# Altium schematic symbol library ESDA7P60-1U1M.SchLib: 1 symbol
Pins are listed as number, name and electrical type; pins without a type are passive.

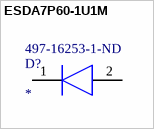
[diagram p0: symbol ESDA7P60-1U1M]

## ESDA7P60-1U1M
designator D?  Supplier Part Number 1: 497-16253-1-ND
Diode; Manufacturer_Name: STMicroelectronics; Manufacturer_Part_Number: ESDA7P60-1U1M; Description: TVS DIODE 5V 11.6V 1610; Number of Unidirectional Channels: 1; Reverse Standoff Voltage: 5V; Min Breakdown Voltage: 6.4V; Clamping Voltage: 11.6V; Peak Pulse Power: 700W; Power Line Protection: No; Polarity: Unidirectional; Max Breakdown Voltage: 7.2V; Peak Pulse Current: 60A; Datasheet Link: https://www.st.com/resource/en/datasheet/esda7p60-1u1m.pdf; Height: 0.6mm; Mouser Part Number: 511-ESDA7P60-1U1M; Mouser Price/Stock: https://www.mouser.com/Search/Refine.aspx?Keyword=511-ESDA7P60-1U1M; RS Part Number: 1106381P; RS Price/Stock: http://uk.rs-online.com/web/p/products/1106381P; Supplier 1: Digi-Key; Manufacturer: STMicroelectronics; Manufacturer Part Number: ESDA7P60-1U1M; Stock 1: 16331; Pricing 1: 1=0.45, 10=0.363, 100=0.2472, 500=0.1854, 1000=0.13905, 2500=0.12746 (USD); Mount: Surface Mount; Case/Package: 1610; Number of Pins: 2; Min Operating Temperature: -55°C; Max Operating Temperature: 150°C; Packaging: Cut Tape; Composition: Zener; REACH SVHC: No SVHC; ComponentLink1URL: http://www.st.com/content/ccc/resource/technical/document/datasheet/44/e9/26/44/42/ee/4f/e5/DM00139972.pdf/files/DM00139972.pdf/jcr:content/translations/en.DM00139972.pdf?src-supplier=Digi-Key; ComponentLink1Description: http://www.st.com/content/ccc/resource/technical/document/datasheet/44/e9/26/44/42/ee/4f/e5/DM00139972.pdf/files/DM00139972.pdf/jcr:content/translations/en.DM00139972.pdf?src-supplier=Digi-Key; ComponentLink2URL: http://www.farnell.com/datasheets/2041290.pdf?src-supplier=Element14; ComponentLink2Description: http://www.farnell.com/datasheets/2041290.pdf?src-supplier=Element14; ComponentLink3URL: http://www.farnell.com/datasheets/2041290.pdf?src-supplier=Farnell; ComponentLink3Description: http://www.farnell.com/datasheets/2041290.pdf?src-supplier=Farnell
footprint ESDA7P601U1M
pins: 1 K, 2 A